# Altium footprint library 7_SEG_Series_PCB_Library_ARAF.PcbLib: 1 footprints
Each footprint in its own frame and in the unit in brackets; x right, y up, seen from the top. Pads: shape width x height; smd on the part's side, far side on the other; paste and mask are expansions set on the pad; w line width, h text height; cw(c..) or ccw(c..) is an arc to the next point about the centre after c.
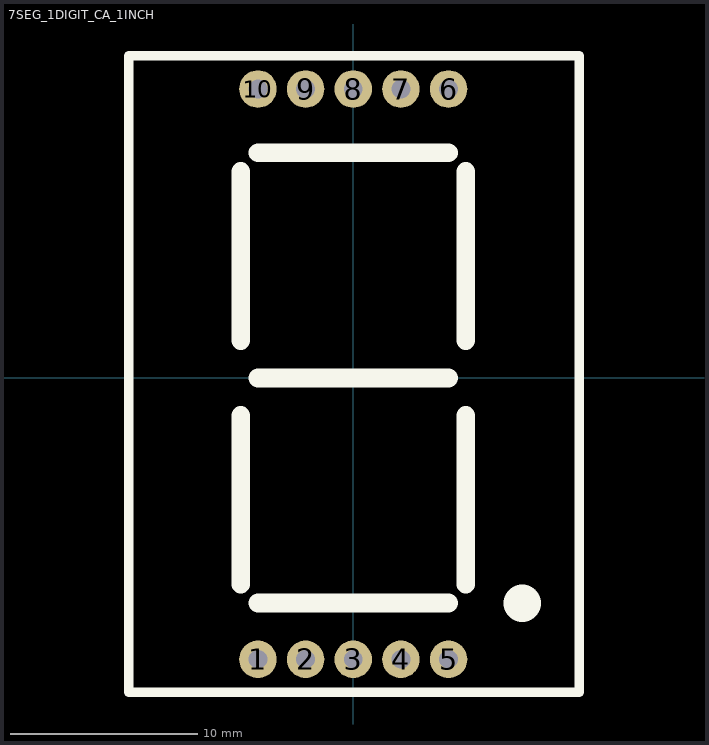
[diagram p0: the footprint, top view; thin cyan lines are the x and y axes]

## 7SEG_1DIGIT_CA_1INCH [mm]
pads (10):
  round 2 hole 1: 1(-5.08,-15) 2(-2.54,-15) 3(0,-15) 4(2.54,-15) 5(5.08,-15) 6(5.08,15.4) 7(2.54,15.4) 8(0,15.4) 9(-2.54,15.4) 10(-5.08,15.4)
Top Overlay:
  lines w0.5: -11.96,-16.75 12.04,-16.75 12.04,17.17 -11.96,17.17 -11.96,-16.75
  lines w1: -6,-11 -6,-2 ; -6,2 -6,11 ; -5.08,-12 5.08,-12 ; -5.08,0 5.08,0 ; -5.08,12 5.08,12 ; 6,-11 6,-2 ; 6,2 6,11
  lines w2: 9,-12 9,-12
3D body "7SEG_1DIGIT_CA_1INCH.STEP": height 10.5, standoff -4, extent -11.96,-16.75 12.04,17.25